# Altium footprint library TorpedoSOM_SOP127P600-8N_ConnectorsCoupld_100PIN_Hirose.PcbLib: 1 footprints
Each footprint in its own frame and in the unit in brackets; x right, y up, seen from the top. Pads: shape width x height; smd on the part's side, far side on the other; paste and mask are expansions set on the pad; w line width, h text height; cw(c..) or ccw(c..) is an arc to the next point about the centre after c.
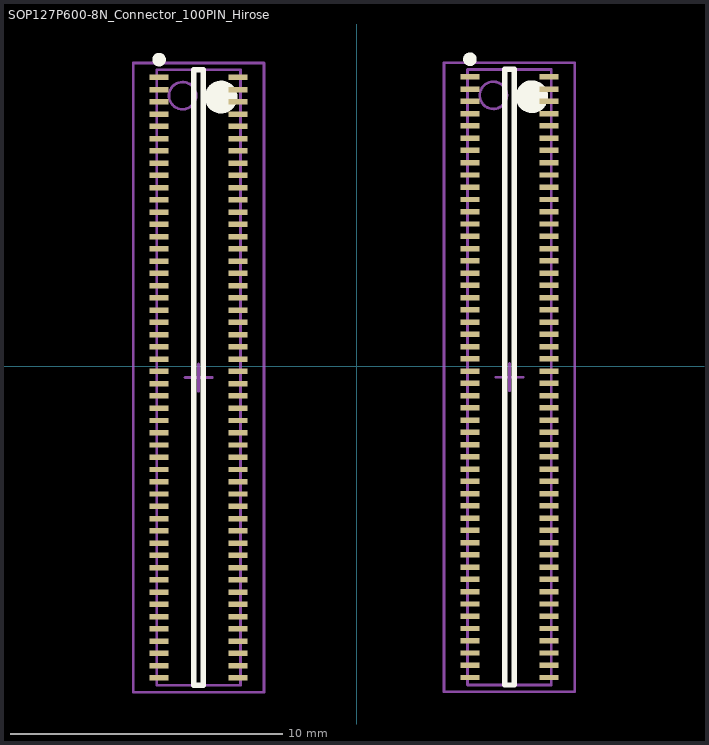
[diagram p0: the footprint, top view; thin cyan lines are the x and y axes]

## SOP127P600-8N_Connector_100PIN_Hirose [mm] "SOP127P600-8N_Connector_100PIN_Hirose"
height 1.55
pads (200):
  rect 0.7x0.2 smd: 1(-7.25,10.6) 1(4.16,10.613) 2(-7.25,10.15) 2(4.16,10.163) 3(-7.25,9.7) 3(4.16,9.713) 4(-7.25,9.25) 4(4.16,9.263) 5(-7.25,8.8) 5(4.16,8.813) 6(-7.25,8.35) 6(4.16,8.363) 7(-7.25,7.9) 7(4.16,7.913) 8(-7.25,7.45) 8(4.16,7.463) 9(-7.25,7) 9(4.16,7.013) 10(-7.25,6.55) 10(4.16,6.563) 11(-7.25,6.1) 11(4.16,6.113) 12(-7.25,5.65) 12(4.16,5.663) 13(-7.25,5.2) 13(4.16,5.213) 14(-7.25,4.75) 14(4.16,4.763) 15(-7.25,4.3) 15(4.16,4.313) 16(-7.25,3.85) 16(4.16,3.863) 17(-7.25,3.4) 17(4.16,3.413) 18(-7.25,2.95) 18(4.16,2.963) 19(-7.25,2.5) 19(4.16,2.513) 20(-7.25,2.05) 20(4.16,2.063) 21(-7.25,1.6) 21(4.16,1.613) 22(-7.25,1.15) 22(4.16,1.163) 23(-7.25,0.7) 23(4.16,0.713) 24(-7.25,0.25) 24(4.16,0.263) 25(-7.25,-0.2) 25(4.16,-0.187) 26(-7.25,-0.65) 26(4.16,-0.637) 27(-7.25,-1.1) 27(4.16,-1.087) 28(-7.25,-1.55) 28(4.16,-1.537) 29(-7.25,-2) 29(4.16,-1.987) 30(-7.25,-2.45) 30(4.16,-2.437) 31(-7.25,-2.9) 31(4.16,-2.887) 32(-7.25,-3.35) 32(4.16,-3.337) 33(-7.25,-3.8) 33(4.16,-3.787) 34(-7.25,-4.25) 34(4.16,-4.237) 35(-7.25,-4.7) 35(4.16,-4.687) 36(-7.25,-5.15) 36(4.16,-5.137) 37(-7.25,-5.6) 37(4.16,-5.587) 38(-7.25,-6.05) 38(4.16,-6.037) 39(-7.25,-6.5) 39(4.16,-6.487) 40(-7.25,-6.95) 40(4.16,-6.937) 41(-7.25,-7.4) 41(4.16,-7.387) 42(-7.25,-7.85) 42(4.16,-7.837) 43(-7.25,-8.3) 43(4.16,-8.287) 44(-7.25,-8.75) 44(4.16,-8.737) 45(-7.25,-9.2) 45(4.16,-9.187) 46(-7.25,-9.65) 46(4.16,-9.637) 47(-7.25,-10.1) 47(4.16,-10.087) 48(-7.25,-10.55) 48(4.16,-10.537) 49(-7.25,-11) 49(4.16,-10.987) 50(-7.25,-11.45) 50(4.16,-11.437) 51(-4.35,-11.45) 51(7.06,-11.437) 52(-4.35,-11) 52(7.06,-10.987) 53(-4.35,-10.55) 53(7.06,-10.537) 54(-4.35,-10.1) 54(7.06,-10.087) 55(-4.35,-9.65) 55(7.06,-9.637) 56(-4.35,-9.2) 56(7.06,-9.187) 57(-4.35,-8.75) 57(7.06,-8.737) 58(-4.35,-8.3) 58(7.06,-8.287) 59(-4.35,-7.85) 59(7.06,-7.837) 60(-4.35,-7.4) 60(7.06,-7.387) 61(-4.35,-6.95) 61(7.06,-6.937) 62(-4.35,-6.5) 62(7.06,-6.487) 63(-4.35,-6.05) 63(7.06,-6.037) 64(-4.35,-5.6) 64(7.06,-5.587) 65(-4.35,-5.15) 65(7.06,-5.137) 66(-4.35,-4.7) 66(7.06,-4.687) 67(-4.35,-4.25) 67(7.06,-4.237) 68(-4.35,-3.8) 68(7.06,-3.787) 69(-4.35,-3.35) 69(7.06,-3.337) 70(-4.35,-2.9) 70(7.06,-2.887) 71(-4.35,-2.45) 71(7.06,-2.437) 72(-4.35,-2) 72(7.06,-1.987) 73(-4.35,-1.55) 73(7.06,-1.537) 74(-4.35,-1.1) 74(7.06,-1.087) 75(-4.35,-0.65) 75(7.06,-0.637) 76(-4.35,-0.2) 76(7.06,-0.187) 77(-4.35,0.25) 77(7.06,0.263) 78(-4.35,0.7) 78(7.06,0.713) 79(-4.35,1.15) 79(7.06,1.163) 80(-4.35,1.6) 80(7.06,1.613) 81(-4.35,2.05) 81(7.06,2.063) 82(-4.35,2.5) 82(7.06,2.513) 83(-4.35,2.95) 83(7.06,2.963) 84(-4.35,3.4) 84(7.06,3.413) 85(-4.35,3.85) 85(7.06,3.863) 86(-4.35,4.3) 86(7.06,4.313) 87(-4.35,4.75) 87(7.06,4.763) 88(-4.35,5.2) 88(7.06,5.213) 89(-4.35,5.65) 89(7.06,5.663) 90(-4.35,6.1) 90(7.06,6.113) 91(-4.35,6.55) 91(7.06,6.563) 92(-4.35,7) 92(7.06,7.013) 93(-4.35,7.45) 93(7.06,7.463) 94(-4.35,7.9) 94(7.06,7.913) 95(-4.35,8.35) 95(7.06,8.363) 96(-4.35,8.8) 96(7.06,8.813) 97(-4.35,9.25) 97(7.06,9.263) 98(-4.35,9.7) 98(7.06,9.713) 99(-4.35,10.15) 99(7.06,10.163) 100(-4.35,10.6) 100(7.06,10.613)
Top Overlay:
  circle w0.6: c-4.975,9.875 r0.3
  circle w0.25: c-7.25,11.25 r0.125
  circle w0.25: c4.16,11.263 r0.125
  circle w0.6: c6.435,9.888 r0.3
  lines w0.2: -5.975,-11.725 -5.625,-11.725 -5.625,10.875 -5.975,10.875 -5.975,-11.725 ; 5.435,-11.712 5.435,10.888 5.785,10.888 5.785,-11.712 5.435,-11.712
Mechanical 13:
  circle w0.1: c-6.39,9.925 r0.5
  circle w0.1: c5.02,9.938 r0.5
  lines w0.1: -7.34,-11.725 -4.26,-11.725 -4.26,10.875 -7.34,10.875 -7.34,-11.725 ; 4.07,-11.712 4.07,10.888 7.15,10.888 7.15,-11.712 4.07,-11.712
Mechanical 15:
  lines w0.1: -6.3,-0.425 -5.3,-0.425 ; -5.8,-0.925 -5.8,0.075 ; 5.11,-0.412 6.11,-0.412 ; 5.61,-0.912 5.61,0.088 ; -8.2,-11.975 -3.4,-11.975 -3.4,11.125 -8.2,11.125 -8.2,-11.975 ; 3.21,-11.962 3.21,11.138 8.01,11.138 8.01,-11.962 3.21,-11.962
3D body: height 2.31, standoff -1.14, extent -7.7,-14.525 7.3,12.475
3D body: height 1.55, standoff 0.2, extent 4.07,-11.712 7.15,10.888